# EAGLE library part D15F (library Connectors)
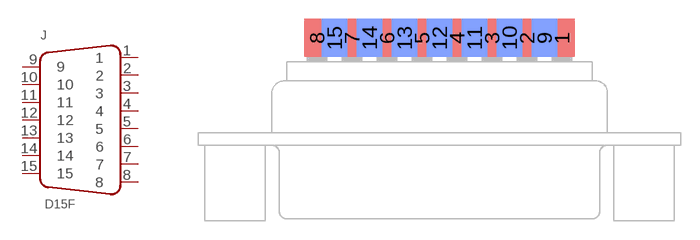
[diagram p30: symbol with the pads of DB15F_SMD2; footprint DB15F_SMD2]

Designator prefix J

## D15F-SMD2  [DB15F_SMD2]
1  1
2  2
3  3
4  4
5  5
6  6
7  7
8  8
9  9
10  10
11  11
12  12
13  13
14  14
15  15

## Footprint DB15F_SMD2 (pad centres in mm)
smd 2 x 3: 1 9.695,0; 2 6.925,0; 3 4.155,0; 4 1.385,0; 5 -1.385,0; 6 -4.155,0; 7 -6.925,0; 8 -9.695,0
smd 2 x 3 bottom: 9 8.31,0; 10 5.54,0; 11 2.77,0; 12 0,0; 13 -2.77,0; 14 -5.54,0; 15 -8.31,0